# EAGLE library part 467650001 (library CONNECTORs)
HDMI - Micro Receptacle Connector 19 Position Surface Mount, Right Angle
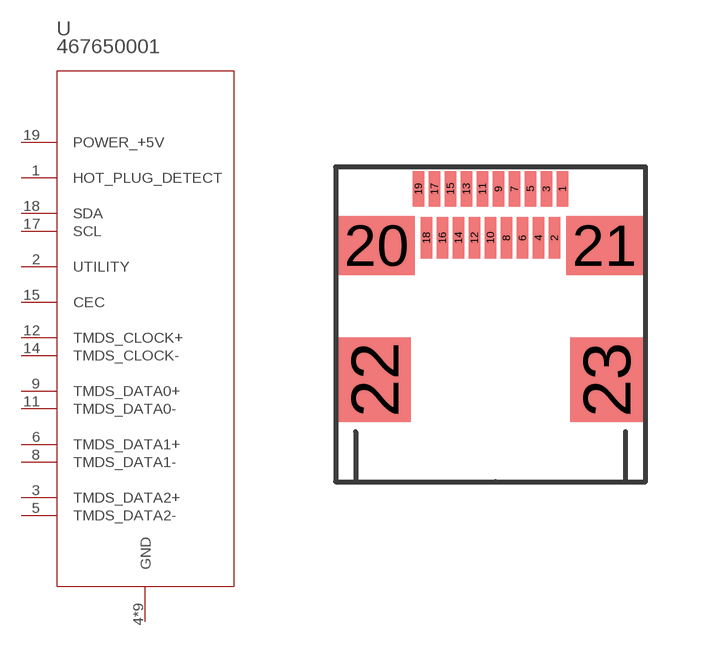
[diagram p96: symbol with the pads of 46765-0001_MOL; footprint 46765-0001_MOL]

Designator prefix U

## 467650001 (DIGIKEY: WM1281CT-ND; HEIGHT: 3; PRICE_PER: 2.29; VALUE: 467650001)  [46765-0001_MOL]
1  HOT_PLUG_DETECT  pas
2  UTILITY  pas
3  TMDS_DATA2+
4  GND
5  TMDS_DATA2-
6  TMDS_DATA1+
7  GND
8  TMDS_DATA1-
9  TMDS_DATA0+
10  GND
11  TMDS_DATA0-
12  TMDS_CLOCK+  pas
13  GND
14  TMDS_CLOCK-  pas
15  CEC  pas
16  GND
17  SCL  pas
18  SDA  pas
19  POWER_+5V  pwr
20  GND
21  GND
22  GND
23  GND

## Footprint 46765-0001_MOL (pad centres in mm)
smd 0.279 x 0.889: 1 1.8,3.323; 3 1.4,3.323; 5 1,3.323; 7 0.6,3.323; 9 0.2,3.323; 11 -0.2,3.323; 13 -0.6,3.323; 15 -1,3.323; 17 -1.4,3.323; 19 -1.8,3.323
smd 0.279 x 1.041: 2 1.6,2.098; 4 1.2,2.098; 6 0.8,2.098; 8 0.4,2.098; 10 0,2.098; 12 -0.4,2.098; 14 -0.8,2.098; 16 -1.2,2.098; 18 -1.6,2.098
smd 1.905 x 1.473: 20 -2.85,1.908; 21 2.85,1.908
smd 1.803 x 2.108: 22 -2.9,-1.452; 23 2.9,-1.452